# Altium footprint library MBM.PcbLib: 1 footprints
Each footprint in its own frame and in the unit in brackets; x right, y up, seen from the top. Pads: shape width x height; smd on the part's side, far side on the other; paste and mask are expansions set on the pad; w line width, h text height; cw(c..) or ccw(c..) is an arc to the next point about the centre after c.
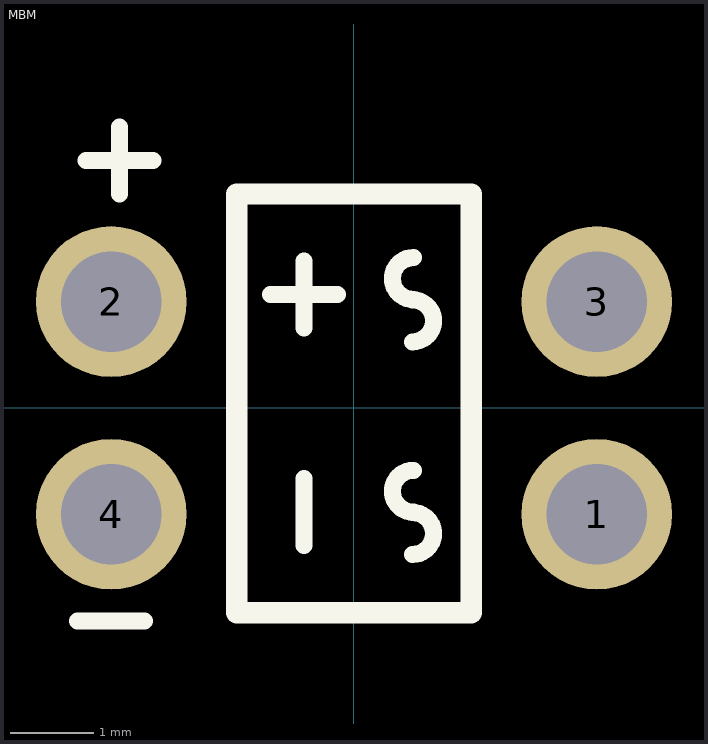
[diagram p0: the footprint, top view; thin cyan lines are the x and y axes]

## MBM [mm]
pads (4):
  round 1.8 hole 1.2: 1(2.9,-1.27) 2(-2.9,1.27) 3(2.9,1.27) 4(-2.9,-1.27)
Top Overlay:
  lines w0.203: -3.3,-2.545 -2.5,-2.545 ; -3.2,2.955 -2.4,2.955 ; -2.8,2.555 -2.8,3.355 ; -1,1.355 -0.2,1.355 ; -0.6,-1.645 -0.6,-0.845 ; -0.6,0.955 -0.6,1.755 ; 0.7,-1.75 ccw(c0.7,-1.5) 0.7,-1.25 ; 0.7,0.79 ccw(c0.7,1.04) 0.7,1.29 ; 0.708,-1.245 cw(c0.708,-0.995) 0.708,-0.745 ; 0.708,1.295 cw(c0.708,1.545) 0.708,1.795
  lines w0.254: -1.4,-2.445 1.4,-2.445 1.4,2.555 -1.4,2.555 -1.4,-2.445